# Altium footprint library displays.PcbLib: 1 footprints
Each footprint in its own frame and in the unit in brackets; x right, y up, seen from the top. Pads: shape width x height; smd on the part's side, far side on the other; paste and mask are expansions set on the pad; w line width, h text height; cw(c..) or ccw(c..) is an arc to the next point about the centre after c.
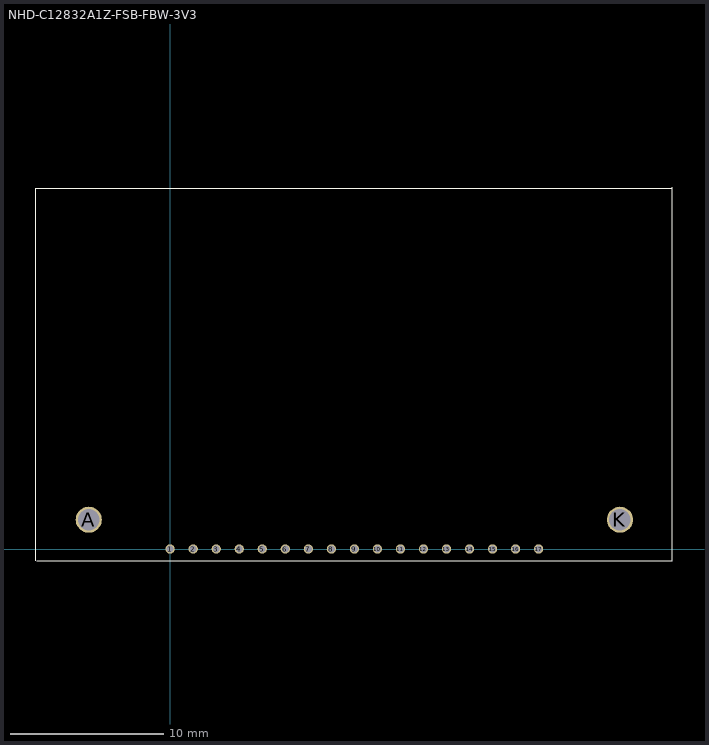
[diagram p0: the footprint, top view; thin cyan lines are the x and y axes]

## NHD-C12832A1Z-FSB-FBW-3V3 [mm] "SPI LCD Module"
height 4
pads (19):
  round 0.6 hole 0.45: 1(0,0) 2(1.5,0) 3(3,0) 4(4.5,0) 5(6,0) 6(7.5,0) 7(9,0) 8(10.5,0) 9(12,0) 10(13.5,0) 11(15,0) 12(16.5,0) 13(18,0) 14(19.5,0) 15(21,0) 16(22.5,0) 17(24,0)
  round 1.7 hole 1.4: A(-5.3,1.91) K(29.3,1.91)
Top Overlay:
  lines w0.05: -8.75,-0.75 -8.75,23.5 32.7,23.5 ; -8.7,-0.75 32.7,-0.75 32.7,23.55
3D body: height 0.05, standoff 0, extent -7.8,0.6 31.8,23.2